# Altium footprint library VoxPopuli.PcbLib: 4 footprints
Each footprint in its own frame and in the unit in brackets; x right, y up, seen from the top. Pads: shape width x height; smd on the part's side, far side on the other; paste and mask are expansions set on the pad; w line width, h text height; cw(c..) or ccw(c..) is an arc to the next point about the centre after c.
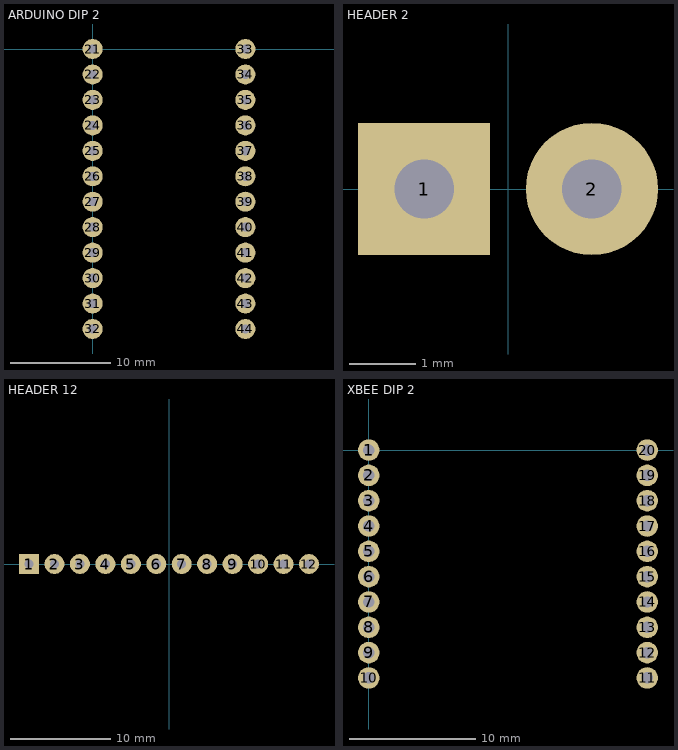
[diagram p0: the footprints below, top view; thin cyan lines are the x and y axes]

## ARDUINO DIP 2 [mm]
pads (24):
  round 2 hole 0.9 unplated: 21(0,0) 22(0,-2.54) 23(0,-5.08) 24(0,-7.62) 25(0,-10.16) 26(0,-12.7) 27(0,-15.24) 28(0,-17.78) 29(0,-20.32) 30(0,-22.86) 31(0,-25.4) 32(0,-27.94) 33(15.24,0) 34(15.24,-2.54) 35(15.24,-5.08) 36(15.24,-7.62) 37(15.24,-10.16) 38(15.24,-12.7) 39(15.24,-15.24) 40(15.24,-17.78) 41(15.24,-20.32) 42(15.24,-22.86) 43(15.24,-25.4) 44(15.24,-27.94)

## HEADER 2 [mm]
pads (2):
  rect 2x2 hole 0.9: 1(-1.27,0)
  round 2 hole 0.9: 2(1.27,0)

## HEADER 12 [mm]
pads (12):
  rect 2x2 hole 0.9: 1(-13.97,0)
  round 2 hole 0.9: 2(-11.43,0) 3(-8.89,0) 4(-6.35,0) 5(-3.81,0) 6(-1.27,0) 7(1.27,0) 8(3.81,0) 9(6.35,0) 10(8.89,0) 11(11.43,0) 12(13.97,0)

## XBEE DIP 2 [mm]
pads (20):
  round 1.7 hole 0.9: 1(0,0) 2(0,-2) 3(0,-4) 4(0,-6) 5(0,-8) 6(0,-10) 7(0,-12) 8(0,-14) 9(0,-16) 10(0,-18) 11(22,-18) 12(22,-16) 13(22,-14) 14(22,-12) 15(22,-10) 16(22,-8) 17(22,-6) 18(22,-4) 19(22,-2) 20(22,0)